# EAGLE library part OUTLINE_NONOLITH_ATXMEGAXXA4U (library badge.lbrbadge_2013)
ATXMEGA A4U Series (XMEGA+USB)
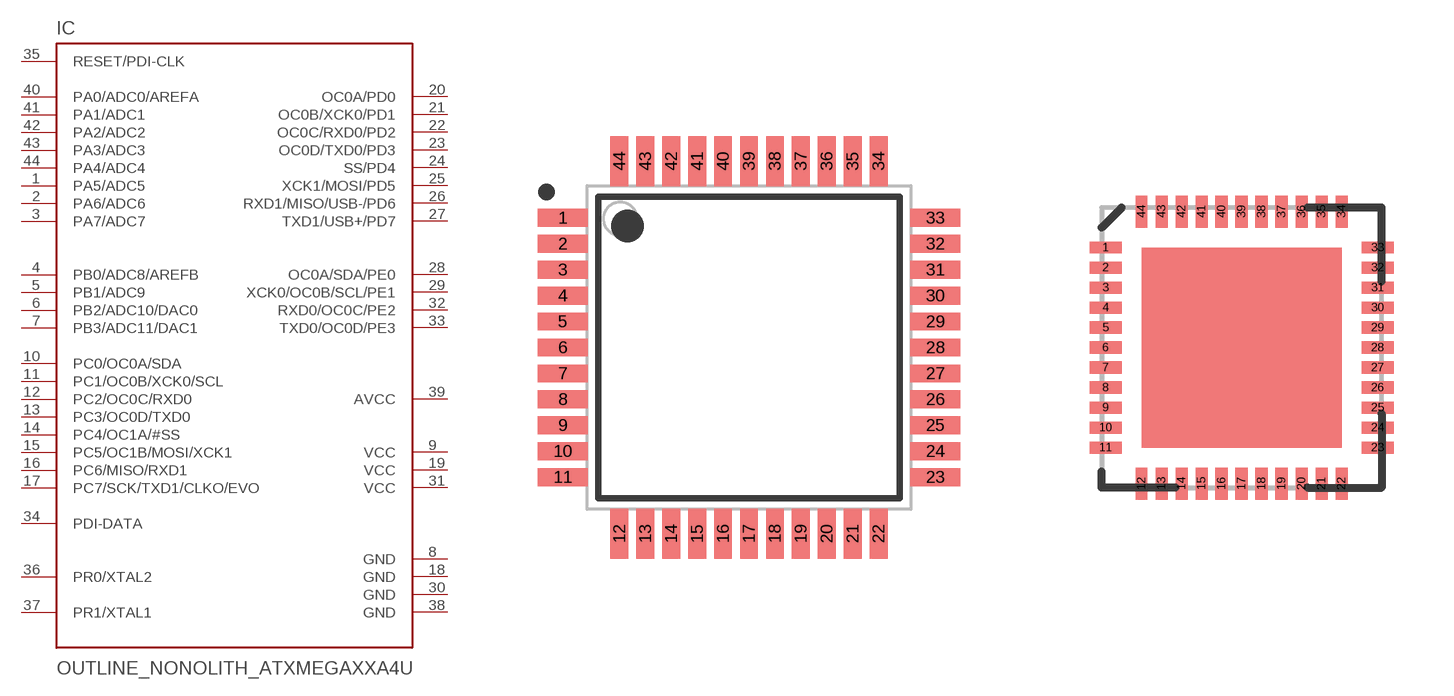
[diagram p1: symbol with the pads of OUTLINE_NONOLITH_TQFP-44; footprints OUTLINE_NONOLITH_TQFP-44, OUTLINE_NONOLITH_QFN-44]

Designator prefix IC

## OUTLINE_NONOLITH_ATXMEGAXXA4U-AU  [OUTLINE_NONOLITH_TQFP-44]
1  PA5/ADC5
2  PA6/ADC6
3  PA7/ADC7
4  PB0/ADC8/AREFB
5  PB1/ADC9
6  PB2/ADC10/DAC0
7  PB3/ADC11/DAC1
8  GND  pwr
9  VCC  pwr
10  PC0/OC0A/SDA
11  PC1/OC0B/XCK0/SCL
12  PC2/OC0C/RXD0
13  PC3/OC0D/TXD0
14  PC4/OC1A/#SS
15  PC5/OC1B/MOSI/XCK1
16  PC6/MISO/RXD1
17  PC7/SCK/TXD1/CLKO/EVO
18  GND  pwr
19  VCC  pwr
20  OC0A/PD0
21  OC0B/XCK0/PD1
22  OC0C/RXD0/PD2
23  OC0D/TXD0/PD3
24  SS/PD4
25  XCK1/MOSI/PD5
26  RXD1/MISO/USB-/PD6
27  TXD1/USB+/PD7
28  OC0A/SDA/PE0
29  XCK0/OC0B/SCL/PE1
30  GND  pwr
31  VCC  pwr
32  RXD0/OC0C/PE2
33  TXD0/OC0D/PE3
34  PDI-DATA
35  RESET/PDI-CLK  in
36  PR0/XTAL2
37  PR1/XTAL1
38  GND  pwr
39  AVCC  pwr
40  PA0/ADC0/AREFA
41  PA1/ADC1
42  PA2/ADC2
43  PA3/ADC3
44  PA4/ADC4

## OUTLINE_NONOLITH_ATXMEGAXXA4U-MH  [OUTLINE_NONOLITH_QFN-44]
Pads as for OUTLINE_NONOLITH_TQFP-44

## Footprint OUTLINE_NONOLITH_TQFP-44 (pad centres in mm)
TQFP-44
smd 1.55 x 0.55: 1 -5.75,4; 2 -5.75,3.2; 3 -5.75,2.4; 4 -5.75,1.6; 5 -5.75,0.8; 6 -5.75,0; 7 -5.75,-0.8; 8 -5.75,-1.6; 9 -5.75,-2.4; 10 -5.75,-3.2; 11 -5.75,-4; 23 5.75,-4; 24 5.75,-3.2; 25 5.75,-2.4; 26 5.75,-1.6; 27 5.75,-0.8; 28 5.75,0; 29 5.75,0.8; 30 5.75,1.6; 31 5.75,2.4; 32 5.75,3.2; 33 5.75,4
smd 0.55 x 1.55: 12 -4,-5.75; 13 -3.2,-5.75; 14 -2.4,-5.75; 15 -1.6,-5.75; 16 -0.8,-5.75; 17 0,-5.75; 18 0.8,-5.75; 19 1.6,-5.75; 20 2.4,-5.75; 21 3.2,-5.75; 22 4,-5.75; 34 4,5.75; 35 3.2,5.75; 36 2.4,5.75; 37 1.6,5.75; 38 0.8,5.75; 39 0,5.75; 40 -0.8,5.75; 41 -1.6,5.75; 42 -2.4,5.75; 43 -3.2,5.75; 44 -4,5.75

## Footprint OUTLINE_NONOLITH_QFN-44 (pad centres in mm)
smd 0.8 x 0.3: 1 -3.4,2.5; 2 -3.4,2; 3 -3.4,1.5; 4 -3.4,1; 5 -3.4,0.5; 6 -3.4,0; 7 -3.4,-0.5; 8 -3.4,-1; 9 -3.4,-1.5; 10 -3.4,-2; 11 -3.4,-2.5; 23 3.4,-2.5; 24 3.4,-2; 25 3.4,-1.5; 26 3.4,-1; 27 3.4,-0.5; 28 3.4,0; 29 3.4,0.5; 30 3.4,1; 31 3.4,1.5; 32 3.4,2; 33 3.4,2.5
smd 0.3 x 0.8: 12 -2.5,-3.4; 13 -2,-3.4; 14 -1.5,-3.4; 15 -1,-3.4; 16 -0.5,-3.4; 17 0,-3.4; 18 0.5,-3.4; 19 1,-3.4; 20 1.5,-3.4; 21 2,-3.4; 22 2.5,-3.4; 34 2.5,3.4; 35 2,3.4; 36 1.5,3.4; 37 1,3.4; 38 0.5,3.4; 39 0,3.4; 40 -0.5,3.4; 41 -1,3.4; 42 -1.5,3.4; 43 -2,3.4; 44 -2.5,3.4